# Altium schematic symbol library APXW003A0X3.SchLib: 1 symbol
Pins are listed as number, name and electrical type; pins without a type are passive.

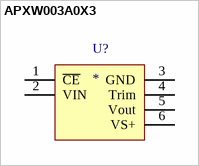
[diagram p0: symbol APXW003A0X3]

## APXW003A0X3
designator U?
PWR MOD DC/DC NON-ISOL 9-36V 1.5
pins: 1 ~{CE}, 2 VIN, 3 GND, 4 Trim, 5 Vout, 6 VS+
1 alternate drawing of the same symbol